# Altium schematic symbol library 电阻.SchLib: 2 symbols
Pins are listed as number, name and electrical type; pins without a type are passive.

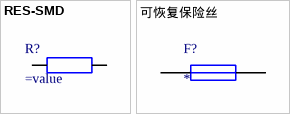
[diagram p0: symbols RES-SMD to 可恢复保险丝]

## RES-SMD
designator R?
贴片电阻
footprint R0201
footprint R0402 (1/16W)
footprint R0603 (1/10W)
footprint R0805 (1/8W)
footprint R1206 (1/4W)
footprint R1210 (1/3W贴片电阻)
footprint R1812 (1/2W贴片电阻)
footprint R2010 (3/4W贴片电阻)
footprint R2512 (1W贴片电阻)
pins: 1, 2

## 可恢复保险丝
designator F?
pins: 1, 2